# EAGLE library part LUSB359300 (library My_Library)
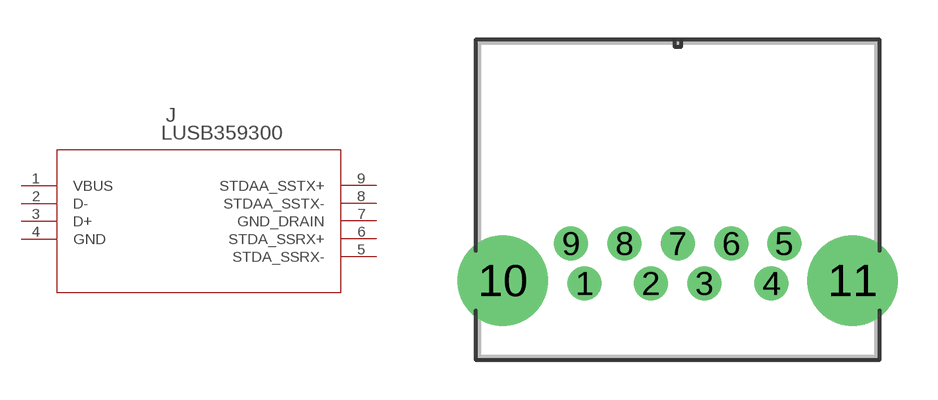
[diagram p14: symbol with the pads of LUSB359300_AMP; footprint LUSB359300_AMP]

Designator prefix J

## LUSB359300 (COPYRIGHT: Copyright (C) 2024 Ultra Librarian. All rights reserved.; MANUFACTURER_PART_NUMBER: LUSB359300; MFR_NAME: Amphenol ICC)  [LUSB359300_AMP]
1  VBUS  pwr
2  D-
3  D+
4  GND  pas
5  STDA_SSRX-  in
6  STDA_SSRX+  in
7  GND_DRAIN  pas
8  STDAA_SSTX-  out
9  STDAA_SSTX+  out

## Footprint LUSB359300_AMP (pad centres in mm)
drill 0.762 pad 1.27: 1 0,0; 2 2.489,0; 3 4.496,0; 4 7.01,0; 5 7.493,1.499; 6 5.512,1.499; 7 3.505,1.499; 8 1.499,1.499; 9 -0.508,1.499
drill 2.362 pad 2.362: 10 -3.073,0.102; 11 10.058,0.102